# Altium footprint library PcbLib1LTC3300.PcbLib: 2 footprints
Each footprint in its own frame and in the unit in brackets; x right, y up, seen from the top. Pads: shape width x height; smd on the part's side, far side on the other; paste and mask are expansions set on the pad; w line width, h text height; cw(c..) or ccw(c..) is an arc to the next point about the centre after c.
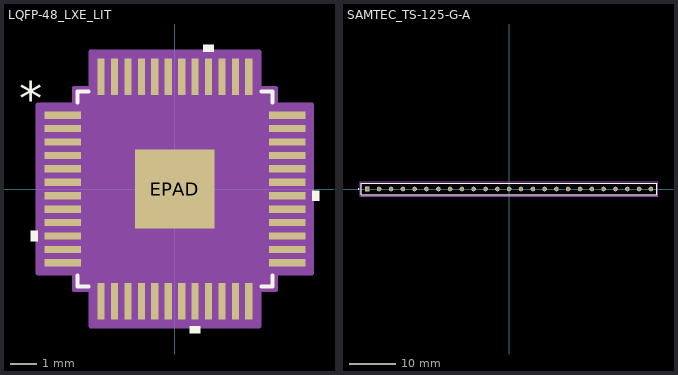
[diagram p0: the footprints below, top view; thin cyan lines are the x and y axes]

## LQFP-48_LXE_LIT [mm]
pads (49):
  rect 1.356x0.27 smd paste+0 mask+0: 1(-4.178,2.75) 2(-4.178,2.25) 3(-4.178,1.75) 4(-4.178,1.25) 5(-4.178,0.75) 6(-4.178,0.25) 7(-4.178,-0.25) 8(-4.178,-0.75) 9(-4.178,-1.25) 10(-4.178,-1.75) 11(-4.178,-2.25) 12(-4.178,-2.75) 25(4.178,-2.75) 26(4.178,-2.25) 27(4.178,-1.75) 28(4.178,-1.25) 29(4.178,-0.75) 30(4.178,-0.25) 31(4.178,0.25) 32(4.178,0.75) 33(4.178,1.25) 34(4.178,1.75) 35(4.178,2.25) 36(4.178,2.75)
  rect 0.27x1.356 smd paste+0 mask+0: 13(-2.75,-4.178) 14(-2.25,-4.178) 15(-1.75,-4.178) 16(-1.25,-4.178) 17(-0.75,-4.178) 18(-0.25,-4.178) 19(0.25,-4.178) 20(0.75,-4.178) 21(1.25,-4.178) 22(1.75,-4.178) 23(2.25,-4.178) 24(2.75,-4.178) 37(2.75,4.178) 38(2.25,4.178) 39(1.75,4.178) 40(1.25,4.178) 41(0.75,4.178) 42(0.25,4.178) 43(-0.25,4.178) 44(-0.75,4.178) 45(-1.25,4.178) 46(-1.75,4.178) 47(-2.25,4.178) 48(-2.75,4.178)
  rect 2.96x2.96 smd paste-1.467 mask+0: EPAD(0,0)
Top Overlay:
  region: 1.441,5.11 1.06,5.11 1.06,5.364 1.441,5.364
  region: 5.11,-0.059 5.364,-0.059 5.364,-0.44 5.11,-0.44
  region: 0.941,-5.11 0.56,-5.11 0.56,-5.364 0.941,-5.364
  region: -5.11,-1.559 -5.364,-1.559 -5.364,-1.94 -5.11,-1.94
  lines w0.152: -3.627,-3.218 -3.627,-3.627 -3.218,-3.627 ; -3.627,3.218 -3.627,3.627 -3.218,3.627 ; 3.218,-3.627 3.627,-3.627 3.627,-3.218 ; 3.218,3.627 3.627,3.627 3.627,3.218
  text "*" at -5.808,2.746 h1.27
Top Paste:
  region: 1.38,-0.1 0.1,-0.1 0.1,-1.38 1.38,-1.38
  region: 1.38,1.38 0.1,1.38 0.1,0.1 1.38,0.1
  region: -0.1,-0.1 -1.38,-0.1 -1.38,-1.38 -0.1,-1.38
  region: -0.1,1.38 -1.38,1.38 -1.38,0.1 -0.1,0.1
Mechanical 13:
  drawing of 197 lines, arcs and shapes, not listed
  text "*" at -3.436,2.365 h1.27
Mechanical 15:
  region: -3.139,-3.754 -3.754,-3.754 -3.754,-3.139 -5.11,-3.139 -5.11,3.139 -3.754,3.139 -3.754,3.754 -3.139,3.754 -3.139,5.11 3.139,5.11 3.139,3.754 3.754,3.754 3.754,3.139 5.11,3.139 5.11,-3.139 3.754,-3.139 3.754,-3.754 3.139,-3.754 3.139,-5.11 -3.139,-5.11
  lines w0.152: -5.11,-3.139 -5.11,3.139 -3.754,3.139 -3.754,3.754 -3.139,3.754 -3.139,5.11 3.139,5.11 3.139,3.754 3.754,3.754 3.754,3.139 5.11,3.139 5.11,-3.139 3.754,-3.139 3.754,-3.754 3.139,-3.754 3.139,-5.11 -3.139,-5.11 -3.139,-3.754 -3.754,-3.754 -3.754,-3.139 -5.11,-3.139
3D body "LQFP-48_LXE_LIT.step": height 1.6, standoff -0.05, extent -4.5,-4.5 4.5,4.5

## SAMTEC_TS-125-G-A [mm]
pads (25):
  rect 0.985x0.985 / inner round 0.985 / far side rect 0.985x0.985 hole 0.635: 01(-30.48,0)
  round 0.985 hole 0.635: 02(-27.94,0) 03(-25.4,0) 04(-22.86,0) 05(-20.32,0) 06(-17.78,0) 07(-15.24,0) 08(-12.7,0) 09(-10.16,0) 10(-7.62,0) 11(-5.08,0) 12(-2.54,0) 13(0,0) 14(2.54,0) 15(5.08,0) 16(7.62,0) 17(10.16,0) 18(12.7,0) 19(15.24,0) 20(17.78,0) 21(20.32,0) 22(22.86,0) 23(25.4,0) 24(27.94,0) 25(30.48,0)
Top Overlay:
  circle w0.2: c-32.4,0 r0.1
  lines w0.2: -31.75,-1.27 -31.75,1.27 31.75,1.27 31.75,-1.27 -31.75,-1.27
Mechanical 13:
  circle w0.2: c-32.4,0 r0.1
  lines w0.1: -31.75,-1.27 -31.75,1.27 ; -31.75,-1.27 31.75,-1.27 ; -31.75,-1.27 -31.75,1.27 ; -31.75,1.27 31.75,1.27 ; -31.75,1.27 31.75,1.27 ; 31.75,-1.27 31.75,1.27 ; 31.75,-1.27 31.75,1.27
Mechanical 15:
  lines w0.05: -32,-1.52 -32,1.52 32,1.52 32,-1.52 -32,-1.52